# Altium footprint library PCB - CONNECTOR - JAE - JAE MX34032NF2.PcbLib: 1 footprints
Each footprint in its own frame and in the unit in brackets; x right, y up, seen from the top. Pads: shape width x height; smd on the part's side, far side on the other; paste and mask are expansions set on the pad; w line width, h text height; cw(c..) or ccw(c..) is an arc to the next point about the centre after c.
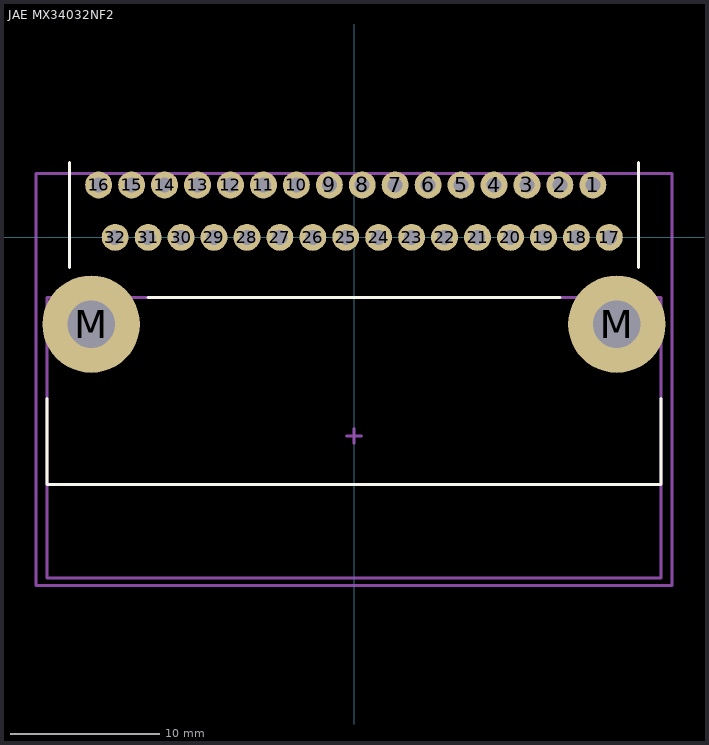
[diagram p0: the footprint, top view; thin cyan lines are the x and y axes]

## JAE MX34032NF2 [mm] "Compact non-waterproof automotive connector, High-density, ECU, switches, and sensors, 32 pos. Right angle Pin header"
height 16.4
pads (34):
  round 1.8 hole 1: 1(15.95,3.5) 2(13.75,3.5) 3(11.55,3.5) 4(9.35,3.5) 5(7.15,3.5) 6(4.95,3.5) 7(2.75,3.5) 8(0.55,3.5) 9(-1.65,3.5) 10(-3.85,3.5) 11(-6.05,3.5) 12(-8.25,3.5) 13(-10.45,3.5) 14(-12.65,3.5) 15(-14.85,3.5) 16(-17.05,3.5) 17(17.05,0) 18(14.85,0) 19(12.65,0) 20(10.45,0) 21(8.25,0) 22(6.05,0) 23(3.85,0) 24(1.65,0) 25(-0.55,0) 26(-2.75,0) 27(-4.95,0) 28(-7.15,0) 29(-9.35,0) 30(-11.55,0) 31(-13.75,0) 32(-15.95,0)
  round 6.5 hole 3.2: M(-17.55,-5.8) M(17.55,-5.8)
Top Overlay:
  lines w0.2: -20.5,-10.75 -20.5,-16.5 20.5,-16.5 20.5,-10.75 ; -19,-2 -19,5 ; -13.75,-4 13.75,-4 ; 19,-2 19,5
Top Assembly:
  lines w0.2: -0.5,-13.25 0.5,-13.25 ; 0,-13.75 0,-12.75 ; -20.5,-22.75 -20.5,-4 20.5,-4 20.5,-22.75 -20.5,-22.75
Top Courtyard (Mech15):
  lines w0.2: -21.25,-23.25 21.25,-23.25 21.25,4.25 -21.25,4.25 -21.25,-23.25
3D body "JAE - MX34032NF2.step": height 16, standoff -3.2, extent -20.55,-22.7 20.55,3.82